# Altium footprint library HeartLibriryPCB.PcbLib: 12 footprints
Each footprint in its own frame and in the unit in brackets; x right, y up, seen from the top. Pads: shape width x height; smd on the part's side, far side on the other; paste and mask are expansions set on the pad; w line width, h text height; cw(c..) or ccw(c..) is an arc to the next point about the centre after c.
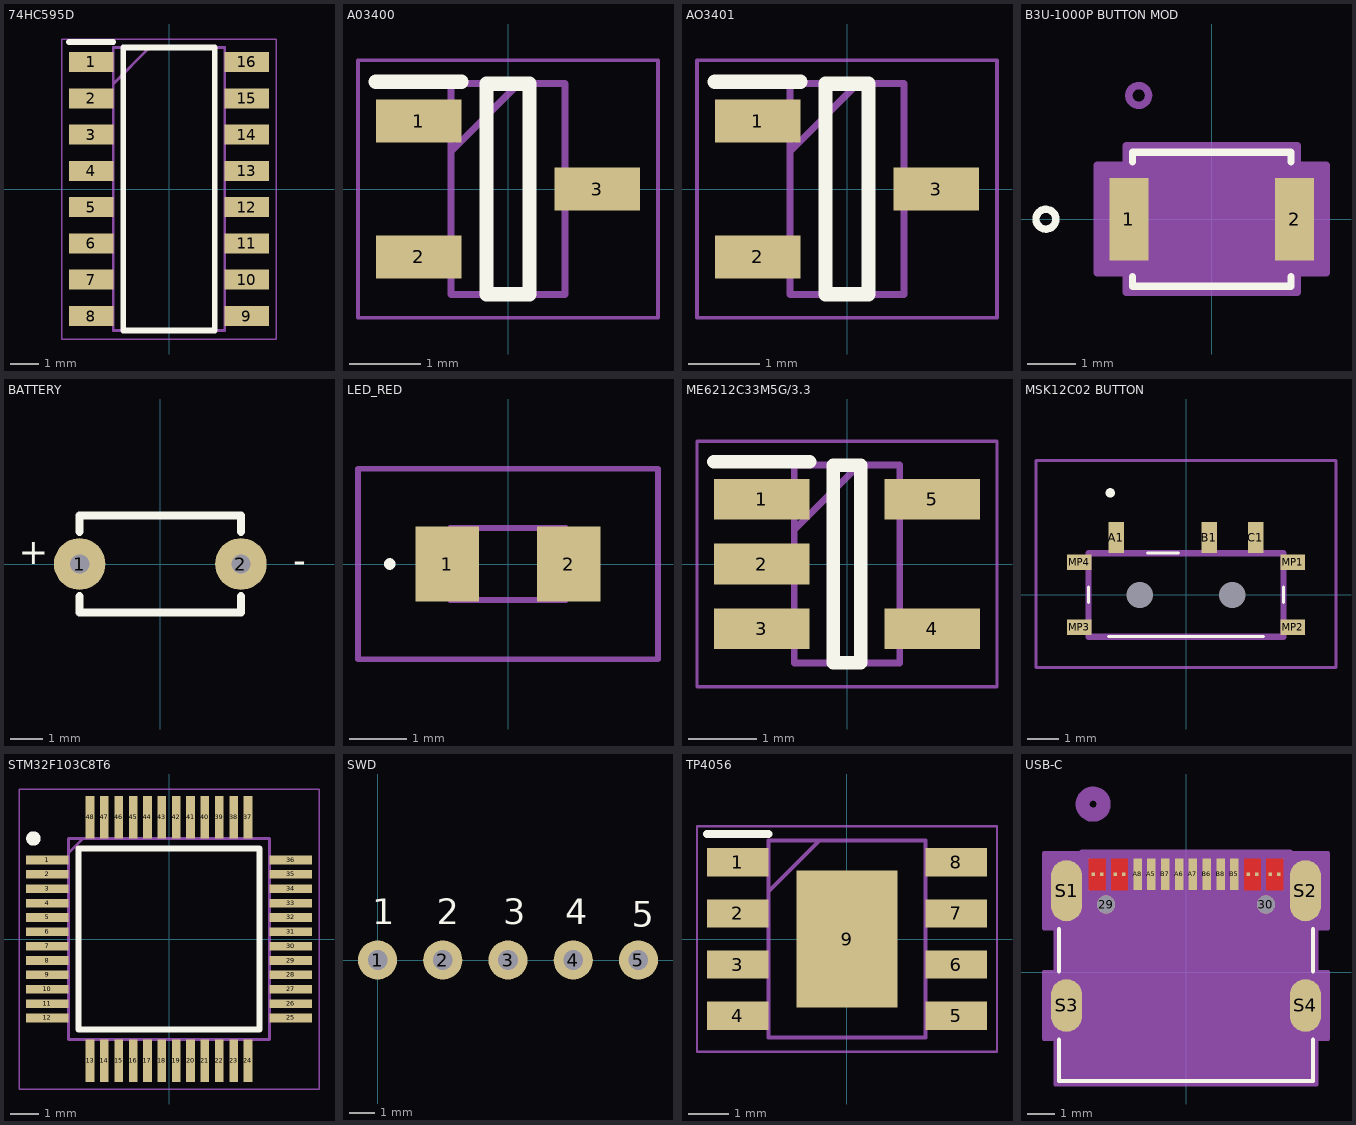
[diagram p0: the footprints below, top view; thin cyan lines are the x and y axes]

## 74HC595D [mm]
pads (16):
  rect 1.55x0.7 smd: 1(-2.725,4.445) 2(-2.725,3.175) 3(-2.725,1.905) 4(-2.725,0.635) 5(-2.725,-0.635) 6(-2.725,-1.905) 7(-2.725,-3.175) 8(-2.725,-4.445) 9(2.725,-4.445) 10(2.725,-3.175) 11(2.725,-1.905) 12(2.725,-0.635) 13(2.725,0.635) 14(2.725,1.905) 15(2.725,3.175) 16(2.725,4.445)
Top Overlay:
  lines w0.2: -3.5,5.145 -1.95,5.145 ; -1.6,-4.95 1.6,-4.95 1.6,4.95 -1.6,4.95 -1.6,-4.95
Mechanical 15:
  lines w0.1: -1.95,3.68 -0.68,4.95 ; -1.95,-4.95 1.95,-4.95 1.95,4.95 -1.95,4.95 -1.95,-4.95
Mechanical 20:
  lines w0.05: -3.75,-5.25 3.75,-5.25 3.75,5.25 -3.75,5.25 -3.75,-5.25

## A03400 [mm]
pads (3):
  rect 1.2x0.6 smd: 1(-1.25,0.95) 2(-1.25,-0.95) 3(1.25,0)
Top Overlay:
  lines w0.2: -1.85,1.5 -0.65,1.5 ; -0.3,-1.475 -0.3,1.475 0.3,1.475 0.3,-1.475 -0.3,-1.475
Mechanical 15:
  lines w0.1: -0.8,0.525 0.15,1.475 ; -0.8,-1.475 -0.8,1.475 0.8,1.475 0.8,-1.475 -0.8,-1.475
Mechanical 20:
  lines w0.05: -2.1,-1.8 -2.1,1.8 2.1,1.8 2.1,-1.8 -2.1,-1.8

## AO3401 [mm]
pads (3):
  rect 1.2x0.6 smd: 1(-1.25,0.95) 2(-1.25,-0.95) 3(1.25,0)
Top Overlay:
  lines w0.2: -1.85,1.5 -0.65,1.5 ; -0.3,-1.475 -0.3,1.475 0.3,1.475 0.3,-1.475 -0.3,-1.475
Mechanical 15:
  lines w0.1: -0.8,0.525 0.15,1.475 ; -0.8,-1.475 -0.8,1.475 0.8,1.475 0.8,-1.475 -0.8,-1.475
Mechanical 20:
  lines w0.05: -2.1,-1.8 -2.1,1.8 2.1,1.8 2.1,-1.8 -2.1,-1.8

## B3U-1000P BUTTON MOD [mm]
pads (2):
  rect 0.8x1.7 smd paste+0 mask+0: 1(-1.7,0) 2(1.7,0)
Top Overlay:
  circle w0.152: c-3.405,0 r0.203
  lines w0.152: -1.627,-1.183 -1.627,-1.377 1.627,-1.377 1.627,-1.183 ; -1.627,1.183 -1.627,1.377 1.627,1.377 1.627,1.183
Mechanical 13:
  circle w0: c0,0 r0.75
  circle w0.152: c-1.5,2.54 r0.203
  lines w0.025: -1.7,0 -1.5,0 -1.7,0 ; -1.5,-1.25 -1.5,1.25 1.5,1.25 1.5,-1.25 -1.5,-1.25 ; 1.5,0 1.7,0 1.5,0
Mechanical 15:
  region: -1.754,-1.104 -2.354,-1.104 -2.354,1.104 -1.754,1.104 -1.754,1.504 1.754,1.504 1.754,1.104 2.354,1.104 2.354,-1.104 1.754,-1.104 1.754,-1.504 -1.754,-1.504
  lines w0.152: -2.354,-1.104 -1.754,-1.104 -1.754,-1.504 1.754,-1.504 1.754,-1.104 2.354,-1.104 2.354,1.104 1.754,1.104 1.754,1.504 -1.754,1.504 -1.754,1.104 -2.354,1.104 -2.354,-1.104

## BATTERY [mm]
pads (2):
  round 1.6 hole 0.6: 1(-2.5,0) 2(2.5,0)
Top Overlay:
  lines w0.254: -2.5,-1 -2.5,-1.5 2.5,-1.5 2.5,-1 ; -2.5,1 -2.5,1.5 2.5,1.5 2.5,1
  text "+" at -4.38,-0.013 h0.8
  text "-" at 4.12,-0.28 h0.8

## LED_RED [mm]
pads (2):
  rect 1.1x1.3 smd: 1(-1.05,0) 2(1.05,0)
Top Overlay:
  lines w0.1: -2.1,0 ccw(c-2.05,0) -2,0 ccw(c-2.05,0) -2.1,0
Mechanical 15:
  lines w0.1: -1,-0.625 -1,0.625 1,0.625 1,-0.625 -1,-0.625
Mechanical 20:
  lines w0.1: -2.6,-1.65 -2.6,1.65 2.6,1.65 2.6,-1.65 -2.6,-1.65

## ME6212C33M5G/3.3 [mm]
pads (5):
  rect 1.4x0.6 smd: 1(-1.25,0.95) 2(-1.25,0) 3(-1.25,-0.95) 4(1.25,-0.95) 5(1.25,0.95)
Top Overlay:
  lines w0.2: -1.95,1.5 -0.55,1.5 ; -0.2,-1.45 -0.2,1.45 0.2,1.45 0.2,-1.45 -0.2,-1.45
Mechanical 15:
  lines w0.1: -0.775,0.5 0.175,1.45 ; -0.775,-1.45 -0.775,1.45 0.775,1.45 0.775,-1.45 -0.775,-1.45
Mechanical 20:
  lines w0.05: -2.2,-1.8 -2.2,1.8 2.2,1.8 2.2,-1.8 -2.2,-1.8

## MSK12C02 BUTTON [mm]
pads (9):
  rect 0.5x1 smd: A1(-2.25,1.85) B1(0.75,1.85) C1(2.25,1.85)
  round 0.425 hole 0.85 unplated: MH1(-1.5,0) MH2(1.5,0)
  rect 0.8x0.5 smd: MP1(3.45,1.05) MP2(3.45,-1.05) MP3(-3.45,-1.05) MP4(-3.45,1.05)
Top Overlay:
  lines w0.1: -3.15,-0.25 -3.15,0.25 -3.15,-0.25 ; -2.5,-1.35 2.5,-1.35 -2.5,-1.35 ; -1.25,1.35 -0.25,1.35 -1.25,1.35 ; 3.15,-0.25 3.15,0.25 3.15,-0.25
  lines w0.2: -2.5,3.3 ccw(c-2.45,3.3) -2.4,3.3 ; -2.5,3.3 cw(c-2.45,3.3) -2.4,3.3 ; -2.5,3.3 ccw(c-2.45,3.3) -2.4,3.3
Mechanical 15:
  lines w0.2: -3.15,-1.35 -3.15,1.35 3.15,1.35 3.15,-1.35 -3.15,-1.35
Mechanical 20:
  lines w0.1: -4.85,-2.35 -4.85,4.35 4.85,4.35 4.85,-2.35 -4.85,-2.35

## STM32F103C8T6 [mm]
pads (48):
  rect 1.475x0.3 smd: 1(-4.238,2.75) 2(-4.238,2.25) 3(-4.238,1.75) 4(-4.238,1.25) 5(-4.238,0.75) 6(-4.238,0.25) 7(-4.238,-0.25) 8(-4.238,-0.75) 9(-4.238,-1.25) 10(-4.238,-1.75) 11(-4.238,-2.25) 12(-4.238,-2.75) 25(4.238,-2.75) 26(4.238,-2.25) 27(4.238,-1.75) 28(4.238,-1.25) 29(4.238,-0.75) 30(4.238,-0.25) 31(4.238,0.25) 32(4.238,0.75) 33(4.238,1.25) 34(4.238,1.75) 35(4.238,2.25) 36(4.238,2.75)
  rect 0.3x1.475 smd: 13(-2.75,-4.238) 14(-2.25,-4.238) 15(-1.75,-4.238) 16(-1.25,-4.238) 17(-0.75,-4.238) 18(-0.25,-4.238) 19(0.25,-4.238) 20(0.75,-4.238) 21(1.25,-4.238) 22(1.75,-4.238) 23(2.25,-4.238) 24(2.75,-4.238) 37(2.75,4.238) 38(2.25,4.238) 39(1.75,4.238) 40(1.25,4.238) 41(0.75,4.238) 42(0.25,4.238) 43(-0.25,4.238) 44(-0.75,4.238) 45(-1.25,4.238) 46(-1.75,4.238) 47(-2.25,4.238) 48(-2.75,4.238)
Top Overlay:
  circle w0.25: c-4.725,3.5 r0.125
  lines w0.2: -3.15,-3.15 -3.15,3.15 3.15,3.15 3.15,-3.15 -3.15,-3.15
Mechanical 15:
  lines w0.1: -3.5,3 -3,3.5 ; -3.5,-3.5 -3.5,3.5 3.5,3.5 3.5,-3.5 -3.5,-3.5
Mechanical 20:
  lines w0.05: -5.225,-5.225 -5.225,5.225 5.225,5.225 5.225,-5.225 -5.225,-5.225

## SWD [mil]
pads (5):
  round 60 hole 30: 1(0,0) 2(100,0) 3(200,0) 4(300,0) 5(400,0)
Top Overlay:
  text "5" at 389.76,51.18 h39.37
  text "4" at 287.4,55.12 h39.37
  text "3" at 192.91,55.12 h39.37
  text "2" at 90.55,55.12 h39.37
  text "1" at -7.87,55.12 h39.37

## TP4056 [mm]
pads (9):
  rect 1.525x0.7 smd: 1(-2.712,1.905) 2(-2.712,0.635) 3(-2.712,-0.635) 4(-2.712,-1.905) 5(2.712,-1.905) 6(2.712,-0.635) 7(2.712,0.635) 8(2.712,1.905)
  rect 2.513x3.402 smd: 9(0,0)
Top Overlay:
  lines w0.2: -3.475,2.605 -1.95,2.605
Mechanical 15:
  lines w0.1: -1.95,1.18 -0.68,2.45 ; -1.95,-2.45 1.95,-2.45 1.95,2.45 -1.95,2.45 -1.95,-2.45
Mechanical 20:
  lines w0.05: -3.725,-2.8 3.725,-2.8 3.725,2.8 -3.725,2.8 -3.725,-2.8

## USB-C [mil]
pads (22):
  round 26 / inner round 60 / far side round 26 hole 26 unplated paste-99999 mask+0: 29(-113.78,96.55) 30(113.78,96.55)
  rect 5x5 smd paste-2.5 mask-2.5: A1(-132.29,139.5) A4(-100.61,139.5) A9(100.61,139.5) A12(132.29,139.5) B1(120.3,139.5) B4(88.61,139.5) B9(-88.61,139.5) B12(-120.3,139.5)
  rect 12x45 smd paste+0 mask+0: A5(-49.23,139.5) A6(-9.85,139.5) A7(9.85,139.5) A8(-68.92,139.5) B5(68.92,139.5) B6(29.54,139.5) B7(-29.54,139.5) B8(49.23,139.5)
  oval 44x87 / inner round 60 / far side oval 44x87 all layers, no hole paste-99999 mask+0: S1(-170.08,116.23) S2(170.08,116.23)
  oval 44x75 / inner round 60 / far side oval 44x75 all layers, no hole paste-99999 mask+0: S3(-170.08,-47.15) S4(170.08,-47.15)
Top Layer:
  region: 114.3,162 138.29,162 138.29,117 114.3,117
  region: 82.61,162 106.61,162 106.61,117 82.61,117
  region: -106.61,117 -106.61,162 -82.61,162 -82.61,117
  region: -114.3,117 -138.29,117 -138.29,162 -114.3,162
Top Overlay:
  lines w6: -181,-96.01 -181,-154.5 181,-154.5 181,-96.01 ; -181,1.7 -181,61.37 ; 181,1.7 181,61.37
Top Paste:
  region: 114.3,162 138.29,162 138.29,117 114.3,117
  region: 82.61,162 106.61,162 106.61,117 82.61,117
  region: -106.61,117 -106.61,162 -82.61,162 -82.61,117
  region: -114.3,117 -138.29,117 -138.29,162 -114.3,162
Top Solder:
  region: 82.61,162 106.61,162 106.61,117 82.61,117
  region: -106.61,117 -106.61,162 -82.61,162 -82.61,117
  region: -114.3,117 -138.29,117 -138.29,162 -114.3,162
  region: 114.3,162 138.29,162 138.29,117 114.3,117
Mechanical 13:
  circle w20: c-132.29,239.5 r15
  lines w1: -176,-149.5 -176,139.5 176,139.5 176,-149.5 -176,-149.5
Mechanical 15:
  region: -202.08,-94.65 -186,-94.65 -186,-159.5 186,-159.5 186,-94.65 202.08,-94.65 202.08,0.35 186,0.35 186,62.73 202.08,62.73 202.08,169.73 148.29,169.73 148.29,172 -148.29,172 -148.29,169.73 -202.08,169.73 -202.08,62.73 -186,62.73 -186,0.35 -202.08,0.35
  lines w6: -202.08,-94.65 -202.08,0.35 -186,0.35 -186,62.73 -202.08,62.73 -202.08,169.73 -148.29,169.73 -148.29,172 148.29,172 148.29,169.73 202.08,169.73 202.08,62.73 186,62.73 186,0.35 202.08,0.35 202.08,-94.65 186,-94.65 186,-159.5 -186,-159.5 -186,-94.65 -202.08,-94.65